# Altium schematic symbol library Mounting_Holes.SchLib: 1 symbol
Pins are listed as number, name and electrical type; pins without a type are passive.

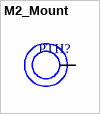
[diagram p0: symbol M2_Mount]

## M2_Mount
designator PTH?
footprint Mounting_Holes
pins: 0